# Altium schematic symbol library MCP2518FDT-E_SL.Schlib: 1 symbol
Pins are listed as number, name and electrical type; pins without a type are passive.

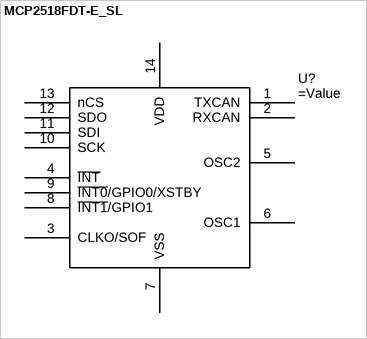
[diagram p0: symbol MCP2518FDT-E_SL]

## MCP2518FDT-E_SL
designator U?
pins: 1 TXCAN, 2 RXCAN, 3 CLKO/SOF, 4 ~{INT}, 5 OSC2, 6 OSC1, 7 VSS, 8 ~{INT1}/GPIO1, 9 ~{INT0}/GPIO0/XSTBY, 10 SCK, 11 SDI, 12 SDO, 13 nCS, 14 VDD